# Altium footprint library NanoV3.3.PcbLib: 16 footprints
Each footprint in its own frame and in the unit in brackets; x right, y up, seen from the top. Pads: shape width x height; smd on the part's side, far side on the other; paste and mask are expansions set on the pad; w line width, h text height; cw(c..) or ccw(c..) is an arc to the next point about the centre after c.
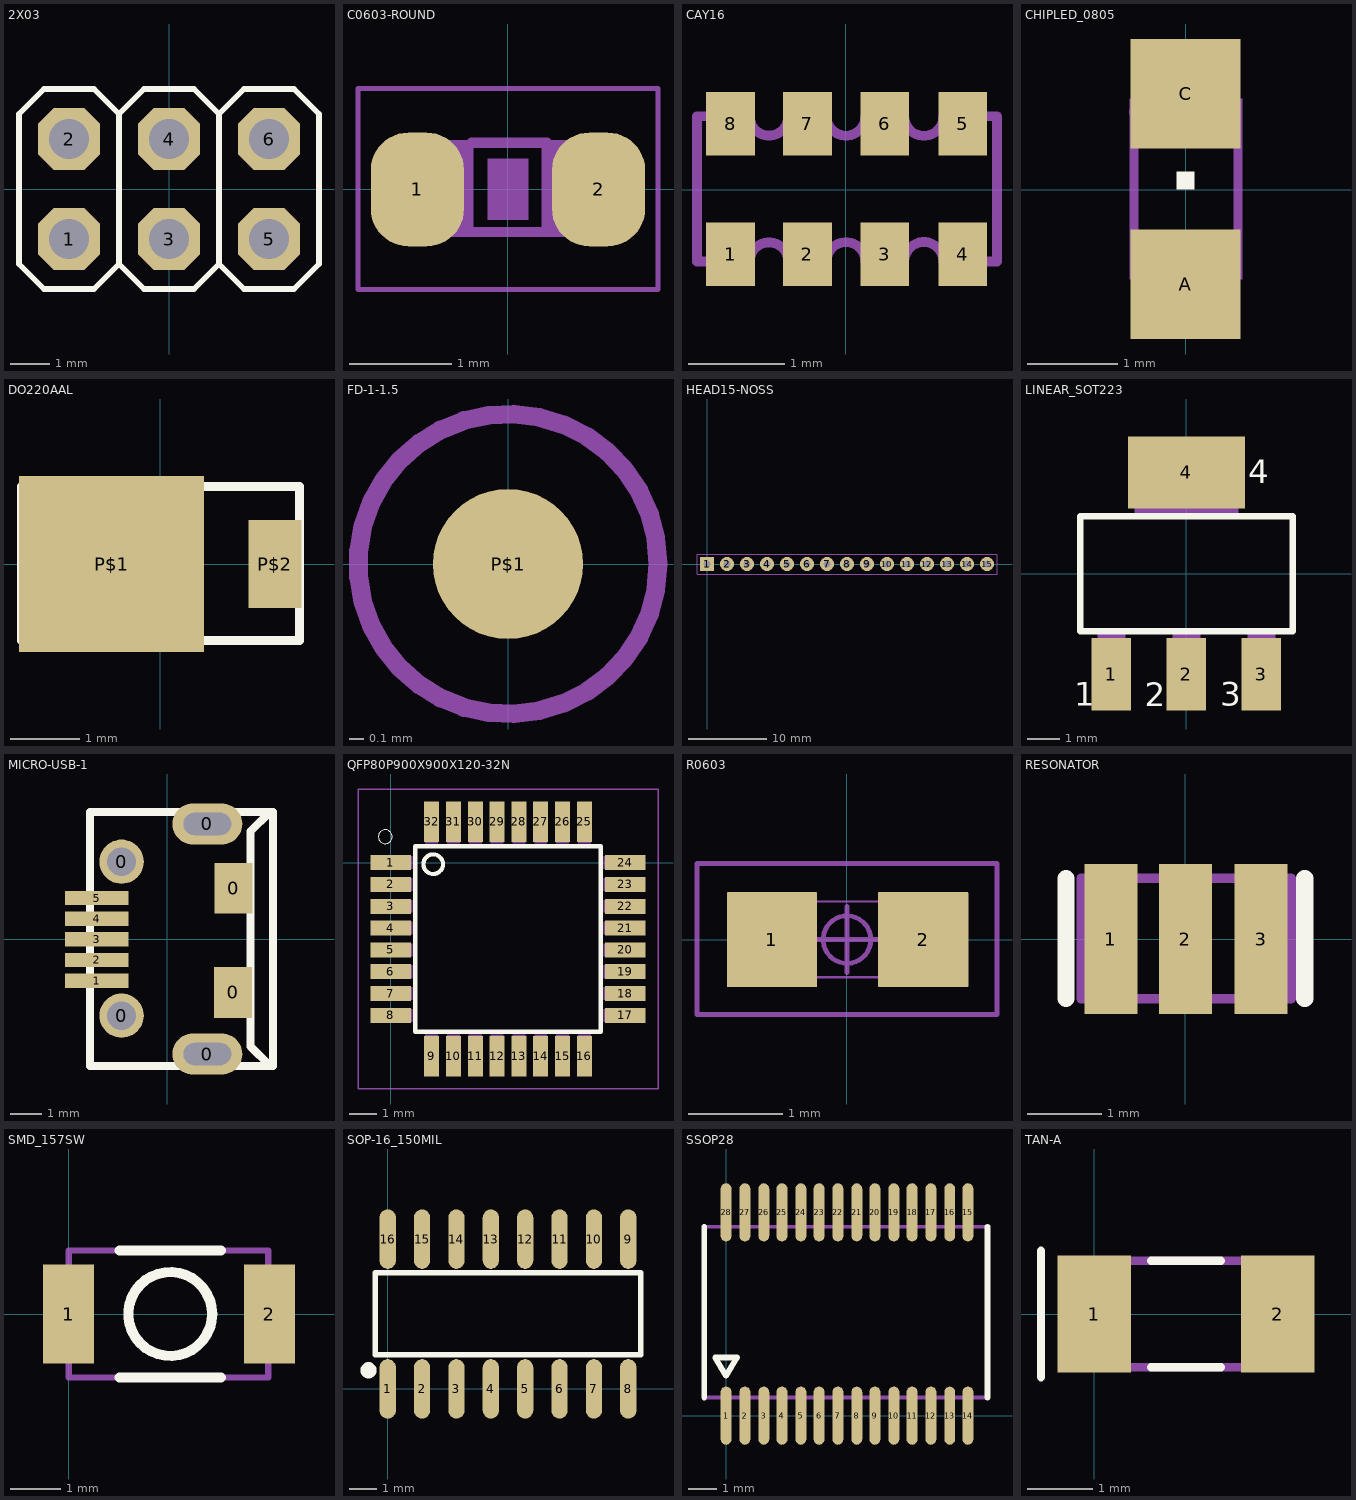
[diagram p0: the footprints below, top view; thin cyan lines are the x and y axes]

## 2X03 [mil] "2X03"
pads (6):
  oct 62x62 hole 40: 1(-100,-50) 2(-100,50) 3(0,-50) 4(0,50) 5(100,-50) 6(100,50)
Top Overlay:
  lines w6: -50,-75 -50,75 ; -50,-75 -25,-100 25,-100 50,-75 ; -50,-75 -75,-100 -125,-100 -150,-75 -150,75 -125,100 -75,100 -50,75 ; -50,75 -25,100 25,100 50,75 ; 50,-75 75,-100 125,-100 150,-75 150,75 125,100 75,100 50,75 ; 50,-75 50,75
Mechanical 16:
  rectangle: 90,-60 110,-40
  rectangle: 90,40 110,60
  rectangle: -10,-60 10,-40
  rectangle: -10,40 10,60
  rectangle: -110,40 -90,60
  rectangle: -110,-60 -90,-40

## C0603-ROUND [mil] "C0603-ROUND"
pads (2):
  rrect80% 36x44 smd: 1(-35,0) 2(35,0)
Mechanical 7:
  rectangle: -7.87,-11.81 8,12
Mechanical 16:
  rectangle: -33,-18.5 -13.31,19
  rectangle: 13,-18.5 33,19
  lines w2: -57.99,-38.7 58,-38.7 58,39 -57.99,39 -57.99,-38.7
  lines w4: -14.02,-16.5 15,-16.5 ; -14.02,18 15,18

## CAY16 [mil] "CAY16"
pads (8):
  rect 20x26 smd: 1(-47.24,-26.57) 2(-15.75,-26.57) 3(16,-26.57) 4(48,-26.57) 5(48,27) 6(16,27) 7(-15.75,27) 8(-47.24,27)
Mechanical 16:
  lines w4: -61.02,-29.53 -61.02,30 -39.37,30 ccw(c-31.5,30) -23.62,30 -7.87,30 ccw(c0.06,30) 8,30 24,30 ccw(c32,30) 40,30 62,30 62,-29.53 40,-29.53 ccw(c32,-29.53) 24,-29.53 8,-29.53 ccw(c0.06,-29.53) -7.87,-29.53 -23.62,-29.53 ccw(c-31.5,-29.53) -39.37,-29.53 -61.02,-29.53

## CHIPLED_0805 [mil] "CHIPLED_0805"
pads (2):
  rect 48x48 smd: A(0,-41.34) C(0,42)
Top Overlay:
  rectangle: -3.94,0 4,8
Mechanical 16:
  circle w4: c-17.72,34 r5
  rectangle: -24.61,37 -11.81,40
  rectangle: -23.62,20 -11.81,32
  rectangle: -7.87,-26.57 8,-19.68
  rectangle: -12.8,-29.53 -6.89,-19.68
  rectangle: 7,-29.52 13,-19.68
  rectangle: -24.61,-39.37 -11.81,-19.68
  rectangle: 12,-39.37 25,-19.68
  rectangle: -7.87,20 8,27
  rectangle: 7,20 13,30
  rectangle: -12.8,20 -6.89,30
  rectangle: 12,20 25,40
  lines w4: -22.64,-19.68 -22.64,37 ; -13.78,-36.42 cw(c0.11,-38.57) 14,-36.42 ; -13.78,37 ccw(c0.11,39.15) 14,37 ; 23,-20.67 23,21

## DO220AAL [mil] "DO220AAL"
pads (2):
  rect 105x100 smd: P$1(-27.56,0)
  rect 30x50 smd: P$2(65,0)
Top Overlay:
  lines w5: -78.74,-43.31 79,-43.31 79,44 -78.74,44 -78.74,-43.31
  lines w16: -39.37,-39.37 -39.37,40

## FD-1-1.5 [mil] "FD-1-1.5"
pads (1):
  rrect100% 40x40 smd: P$1(0,0)
Top Solder:
  circle w48: c0,0 r20
Mechanical 8:
  circle w5: c0,0 r40

## HEAD15-NOSS [mil] "HEAD15-NOSS"
pads (15):
  rect 70x70 hole 36: 1(0,0)
  round 70 hole 36: 2(100,0) 3(200,0) 4(300,0) 5(400,0) 6(500,0) 7(600,0) 8(700,0) 9(800,0) 10(900,0) 11(1000,0) 12(1100,0) 13(1200,0) 14(1300,0) 15(1400,0)
Mechanical 16:
  lines w5: -50,-50 1450,-50 1450,50 -50,50 -50,-50

## LINEAR_SOT223 [mil] "LINEAR_SOT223"
pads (4):
  rect 48x88 smd: 1(-91,-122) 2(0,-122) 3(91,-122)
  rect 142x87 smd: 4(0,123)
Top Overlay:
  lines w8: -129,-70 -129,70 129,70 129,-70 -129,-70
  text "2" at -50.81,-170.37 h49.6
  text "1" at -135.93,-170 h49.6
  text "4" at 75,100 h49.6
  text "3" at 41,-170 h49.6
Mechanical 16:
  rectangle: 74,-144 108,-71
  rectangle: -108,-144 -74,-71
  rectangle: -17,-144 17,-71
  rectangle: -63,71 63,144
  rectangle: 74,-144 108,-71
  rectangle: -108,-144 -74,-71
  rectangle: -17,-144 17,-71
  rectangle: -63,71 63,144

## MICRO-USB-1 [mil]
pads (11):
  round 55 hole 35.43: 0(-56.7,-94.9) 0(-56.7,95.7)
  oval 86.58x51.18 hole 27.56 slot 59.06 at 0 deg: 0(49.6,-142.5) 0(49.6,142.5)
  rect 47.24x63 smd: 0(81.53,-66.26) 0(82.17,62.82)
  rect 78.74x17.72 smd: 1(-87.59,-51.59) 2(-87.59,-26) 3(-87.59,-0.41) 4(-87.59,25.18) 5(-87.59,50.77)
Top Overlay:
  lines w10: -95.67,157.48 -95.67,-157.48 130.31,-157.48 ; -95.27,157.48 130.71,157.48 ; 130.31,-156.3 126.38,-156.3 103.15,-133.07 103.15,133.46 126.38,156.69 131.1,156.69 ; 131.1,-157.48 131.1,157.48

## QFP80P900X900X120-32N [mm]
pads (32):
  rect 1.5x0.55 smd: 1(0,0) 2(0,-0.8) 3(0,-1.6) 4(0,-2.4) 5(0,-3.2) 6(0,-4) 7(0,-4.8) 8(0,-5.6) 17(8.6,-5.6) 18(8.6,-4.8) 19(8.6,-4) 20(8.6,-3.2) 21(8.6,-2.4) 22(8.6,-1.6) 23(8.6,-0.8) 24(8.6,0)
  rect 0.55x1.5 smd: 9(1.5,-7.1) 10(2.3,-7.1) 11(3.1,-7.1) 12(3.9,-7.1) 13(4.7,-7.1) 14(5.5,-7.1) 15(6.3,-7.1) 16(7.1,-7.1) 25(7.1,1.5) 26(6.3,1.5) 27(5.5,1.5) 28(4.7,1.5) 29(3.9,1.5) 30(3.1,1.5) 31(2.3,1.5) 32(1.5,1.5)
Top Overlay:
  circle w0: c-0.2,0.95 r0.254
  circle w0.152: c1.557,-0.057 r0.359
  lines w0.152: 0.9,-6.2 0.9,0.6 7.7,0.6 7.7,-6.2 0.9,-6.2
Mechanical 13:
  region: 1.729,0.709 1.268,0.709 1.268,1.697 1.729,1.697
  region: 2.529,0.712 2.067,0.712 2.067,1.697 2.529,1.697
  region: 3.329,0.708 2.87,0.708 2.87,1.697 3.329,1.697
  region: 4.129,0.713 3.67,0.713 3.67,1.697 4.129,1.697
  region: 4.929,0.706 4.471,0.706 4.471,1.697 4.929,1.697
  region: 5.729,0.709 5.272,0.709 5.272,1.697 5.729,1.697
  region: 6.529,0.711 6.074,0.711 6.074,1.697 6.529,1.697
  region: 7.329,0.713 6.876,0.713 6.876,1.697 7.329,1.697
  region: 8.797,-0.225 7.811,-0.225 7.811,0.229 8.797,0.229
  region: 8.797,-1.026 7.811,-1.026 7.811,-0.571 8.797,-0.571
  region: 8.797,-1.827 7.811,-1.827 7.811,-1.371 8.797,-1.371
  region: 8.797,-2.628 7.809,-2.628 7.809,-2.171 8.797,-2.171
  region: 8.797,-3.429 7.809,-3.429 7.809,-2.971 8.797,-2.971
  region: 8.797,-4.231 7.811,-4.231 7.811,-3.771 8.797,-3.771
  region: 8.797,-5.033 7.813,-5.033 7.813,-4.571 8.797,-4.571
  region: 8.797,-5.829 7.807,-5.829 7.807,-5.371 8.797,-5.371
  region: 7.329,-7.303 6.875,-7.303 6.875,-6.306 7.329,-6.306
  region: 6.529,-7.304 6.074,-7.304 6.074,-6.306 6.529,-6.306
  region: 5.729,-7.298 5.272,-7.298 5.272,-6.306 5.729,-6.306
  region: 4.929,-7.302 4.472,-7.302 4.472,-6.306 4.929,-6.306
  region: 4.129,-7.298 3.671,-7.298 3.671,-6.306 4.129,-6.306
  region: 3.329,-7.304 2.869,-7.304 2.869,-6.306 3.329,-6.306
  region: 2.529,-7.3 2.07,-7.3 2.07,-6.306 2.529,-6.306
  region: 1.729,-7.305 1.265,-7.305 1.265,-6.306 1.729,-6.306
  region: 0.794,-5.832 -0.201,-5.832 -0.201,-5.371 0.794,-5.371
  region: 0.794,-5.031 -0.201,-5.031 -0.201,-4.571 0.794,-4.571
  region: 0.794,-4.23 -0.202,-4.23 -0.202,-3.771 0.794,-3.771
  region: 0.794,-3.429 -0.203,-3.429 -0.203,-2.971 0.794,-2.971
  region: 0.794,-2.628 -0.2,-2.628 -0.2,-2.171 0.794,-2.171
  region: 0.794,-1.828 -0.2,-1.828 -0.2,-1.371 0.794,-1.371
  region: 0.794,-1.025 -0.205,-1.025 -0.205,-0.571 0.794,-0.571
  region: 0.794,-0.228 -0.197,-0.228 -0.197,0.229 0.794,0.229
Mechanical 15:
  lines w0.05: -1.2,-8.3 -1.2,2.7 9.8,2.7 9.8,-8.3 -1.2,-8.3

## R0603 [mil] "0603-1608X90N"
pads (2):
  rrect3% 38x40 smd: 1(-31.5,0) 2(32,0)
Mechanical 16:
  circle w2: c0,0 r10
  lines w1: -32.05,-15.75 -32.05,16 31,16 31,-15.75 -32.05,-15.75
  lines w2: -13.78,0 14,0 ; 0,-13.78 0,14 ; -62.99,-31.5 63,-31.5 63,32 -62.99,32 -62.99,-31.5

## RESONATOR [mil] "RESONATOR"
pads (3):
  rect 28x79 smd: 1(-39.37,0) 2(0,0) 3(40,0)
Top Overlay:
  lines w9: -62.99,-31.5 -62.99,32 ; 63,-31.5 63,32
Mechanical 16:
  lines w5: -55.12,-31.5 56,-31.5 56,32 -55.12,32 -55.12,-31.5

## SMD_157SW [mil] "SMD_157SW"
pads (2):
  rect 40x78 smd: 1(0,0) 2(158,0)
Top Overlay:
  circle w8: c80,0 r33
  lines w8: 40,-50 120,-50 ; 40,50 120,50
Mechanical 16:
  circle w5: c80,0 r33
  lines w5: 0,-50 157,-50 157,50 0,50 0,-50

## SOP-16_150MIL [mm]
pads (16):
  oval 0.6x2.198 smd: 1(0,0) 2(1.27,0) 3(2.54,0) 4(3.81,0) 5(5.08,0) 6(6.35,0) 7(7.62,0) 8(8.89,0) 9(8.89,5.537) 10(7.62,5.537) 11(6.35,5.537) 12(5.08,5.537) 13(3.81,5.537) 14(2.54,5.537) 15(1.27,5.537) 16(0,5.537)
Top Overlay:
  lines w0.2: -0.455,1.27 9.345,1.27 9.345,4.293 -0.455,4.293 -0.455,3.769 -0.455,1.27
  lines w0.3: -0.711,0.838 ccw(c-0.71,0.688) -0.709,0.838

## SSOP28 [mil] "SSOP28"
pads (28):
  rrect100% 15x80 smd: 1(0,0) 2(26,0) 3(52,0) 4(77,0) 5(103,0) 6(128,0) 7(154,0) 8(180,0) 9(205,0) 10(231,0) 11(256,0) 12(282,0) 13(308,0) 14(333,0) 15(333,280) 16(308,280) 17(282,280) 18(256,280) 19(231,280) 20(205,280) 21(180,280) 22(154,280) 23(128,280) 24(103,280) 25(77,280) 26(52,280) 27(26,280) 28(0,280)
Top Overlay:
  lines w8: -30,25 -30,260 ; 360,25 360,260 ; -15,80 15,80 0,55 -15,80
Mechanical 16:
  lines w5: -30,25 -30,260 360,260 360,25 -30,25

## TAN-A [mil] "TAN-A"
pads (2):
  rect 44x70 smd: 1(0,0) 2(110,0)
Top Overlay:
  lines w5: -32,-38 -32,38 ; 34,-32 76,-32 ; 34,32 76,32
Mechanical 16:
  lines w5: -17,-32 -17,32 127,32 127,-32 -17,-32